# Altium footprint library logo.PcbLib: 2 footprints
Each footprint in its own frame and in the unit in brackets; x right, y up, seen from the top. Pads: shape width x height; smd on the part's side, far side on the other; paste and mask are expansions set on the pad; w line width, h text height; cw(c..) or ccw(c..) is an arc to the next point about the centre after c.
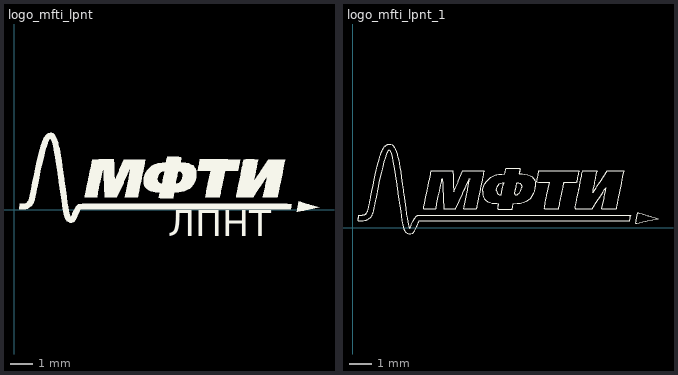
[diagram p0: the footprints below, top view; thin cyan lines are the x and y axes]

## logo_mfti_lpnt [mm]
Top Overlay:
  drawing of 6 lines, arcs and shapes, not listed
  text "ЛПНТ" at 6.8,-1.575 h2

## logo_mfti_lpnt_1 [mm]
Top Overlay:
  drawing of 819 lines, arcs and shapes, not listed